# Altium schematic symbol library LCD GOST.SchLib: 3 symbols
Pins are listed as number, name and electrical type; pins without a type are passive.

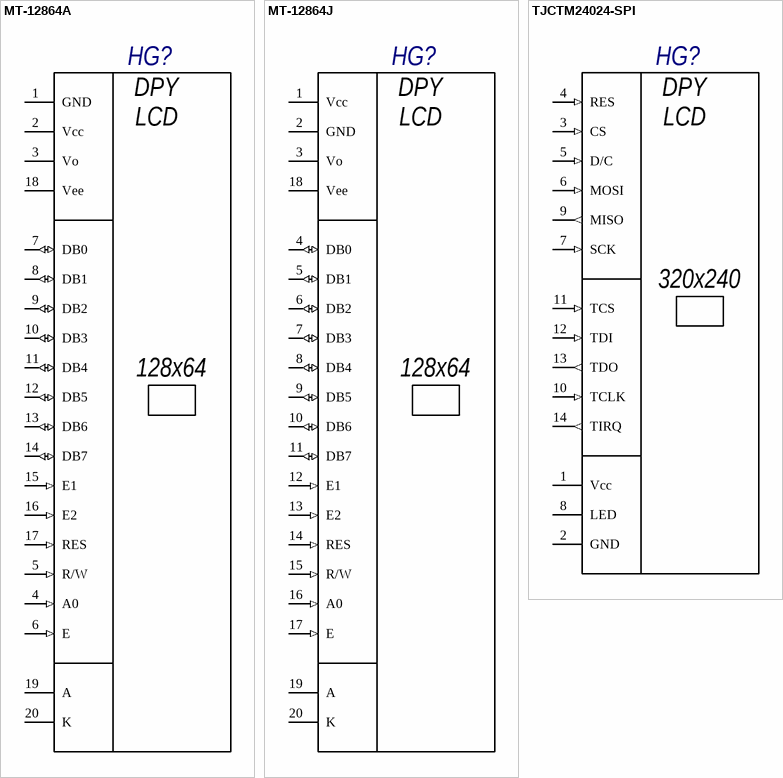
[diagram p0: symbols MT-12864A to TJCTM24024-SPI]

## MT-12864A
designator HG?
Published: 28.08.2014; Publisher: Andrew Danich; Type: Индикатор графический
pins: 1 GND (power) "Общий", 2 Vcc (power) "Питание модуля", 3 Vo (power) "Вход питания ЖК панели", 4 A0 (in) "Команды/Данные", 5 R/W (in) "Чтение/Запись", 6 E (in) "Стробирование данных", 7 DB0 (io) "Шина данных", 8 DB1 (io) "Шина данных", 9 DB2 (io) "Шина данных", 10 DB3 (io) "Шина данных", 11 DB4 (io) "Шина данных", 12 DB5 (io) "Шина данных", 13 DB6 (io) "Шина данных", 14 DB7 (io) "Шина данных", 15 E1 (in) "Выбор кристалла 1", 16 E2 (in) "Выбор кристалла 2", 17 RES (in) "Сброс", 18 Vee (power) "Выход DC-DC преобразователя", 19 A (power) "Питания подсветки +", 20 K (power) "Питания подсветки -"
text: DPY; LCD; 128x64

## MT-12864J
designator HG?
Published: 28.08.2014; Publisher: Andrew Danich; Type: Индикатор графический
pins: 1 Vcc (power) "Питание модуля", 2 GND (power) "Общий", 3 Vo (power) "Вход питания ЖК панели", 4 DB0 (io) "Шина данных", 5 DB1 (io) "Шина данных", 6 DB2 (io) "Шина данных", 7 DB3 (io) "Шина данных", 8 DB4 (io) "Шина данных", 9 DB5 (io) "Шина данных", 10 DB6 (io) "Шина данных", 11 DB7 (io) "Шина данных", 12 E1 (in) "Выбор кристалла 1", 13 E2 (in) "Выбор кристалла 2", 14 RES (in) "Сброс", 15 R/W (in) "Чтение/Запись", 16 A0 (in) "Команды/Данные", 17 E (in) "Стробирование данных", 18 Vee (power) "Выход DC-DC преобразователя", 19 A (power) "Питания подсветки +", 20 K (power) "Питания подсветки -"
text: DPY; LCD; 128x64

## TJCTM24024-SPI
designator HG?
Published: 02.10.2015; Publisher: Andrew Danich; Type: Индикатор графический
pins: 1 Vcc (power), 2 GND (power), 3 CS (in), 4 RES (in), 5 D/C (in), 6 MOSI (in), 7 SCK (in), 8 LED, 9 MISO (out), 10 TCLK (in), 11 TCS (in), 12 TDI (in), 13 TDO (out), 14 TIRQ (out)
text: DPY; LCD; 320x240